# Altium schematic symbol library SDEC944-xC.SCHLIB: 133 symbols (part 2 of 2)
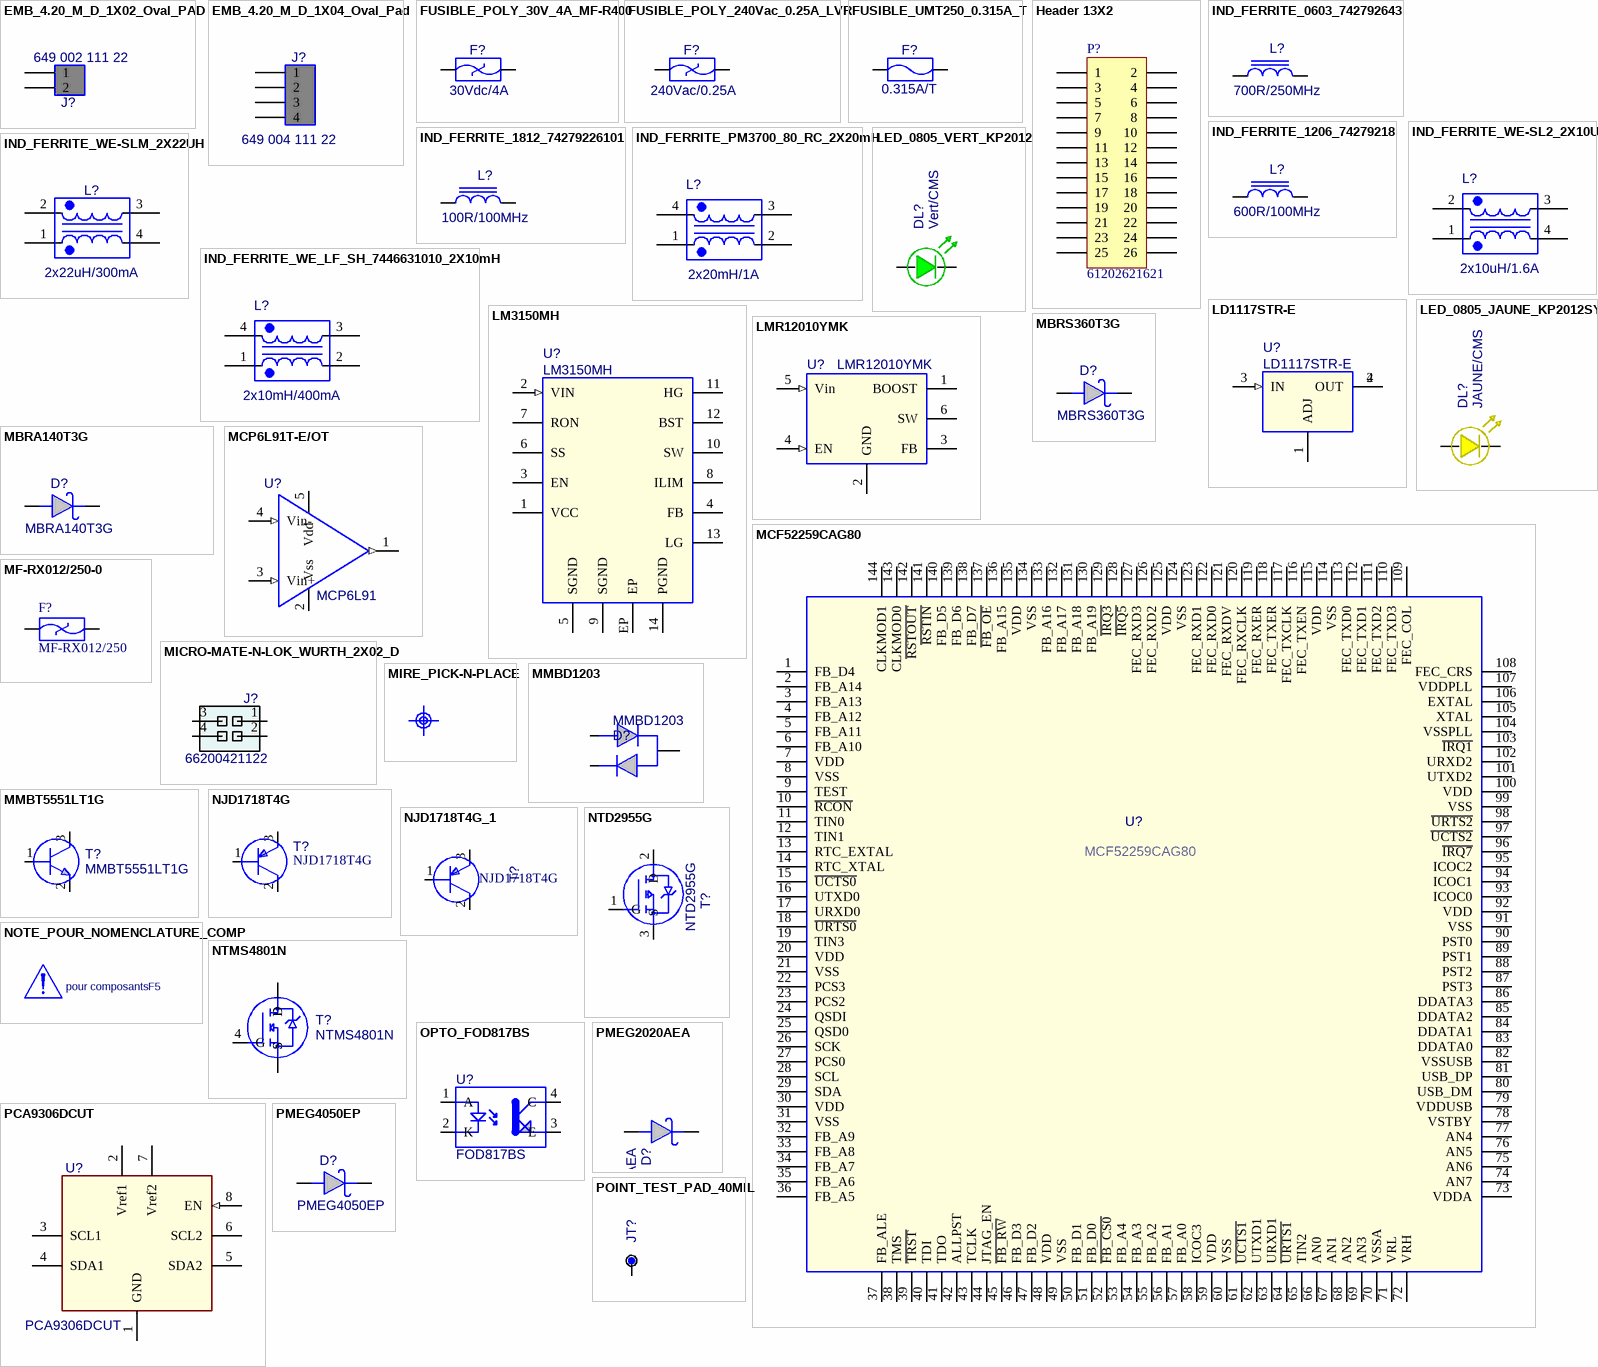
[diagram p4: symbols EMB_4.20_M_D_1X02_Oval_PAD to POINT_TEST_PAD_40MIL]

## OPTO_FOD817BS
designator U?  value FOD817BS  (hidden comment: OPTO_FOD817BS)
Optocouleur simple, IR GaAs, Viso=5kVrms, If=50mA, Vce=70V, Ic=50mA, CTR=130-260, CMS; Creation: FB (10/07/12); Boitier: MDIP4-SM; Remarque: {Remarque}; Coeff: 1; Fabricant: Fairchild; Verification: *; ComponentLink1URL: O:\_Documentation\Datasheets\Fairchild\FOD814A.pdf; ComponentLink2URL: o:\_Documentation\Datasheets\; Config: *; ComponentLink1Description: Datasheet; ComponentLink2Description: Datasheet Boitier; Ref Fab: FOD817BS; Supplier Part Number 1: 512-FOD817BS; Supplier 1: Mouser
footprint OPTO_FOD817BS_ReflowSoldering
pins: 1 A, 2 K, 3 E, 4 C

## PCA9306DCUT
designator U?
DUAL BIDIRECTIONAL I2C BUS AND SMBus  VOLTAGE-LEVEL TRANSLATOR ,1.2V à 5V, CMS; Creation: CHD (21/02/12); Reference: {Reference}; Boitier: VSSOP-8; Fabricant: Texas Instruments; Coeff: 1; Ref Fab: PCA9306DCUT; ComponentLink1URL: o:\_Documentation\Datasheets\Texas\PCA9306.pdf; ComponentLink2URL: o:\_Documentation\Datasheets\Texas\PCA9306.pdf; Config: *; ComponentLink1Description: Datasheet; ComponentLink2Description: Datasheet Boitier; Supplier 1: Farnell; Supplier Part Number 1: 2126364; Value: PCA9306DCUT; Supplier 2: Mouser; Supplier Part Number 2: 595-PCA9306DCUT
footprint VSSOP_008_E0,5_L3,1MM
pins: 1 GND (power), 2 Vref1 (power), 3 SCL1, 4 SDA1, 5 SDA2, 6 SCL2, 7 Vref2 (power), 8 EN (in)

## PMEG2020AEA
designator D?
Diode Schottky, Vrrm=20V, If=2A, Vf=0.45V, CMS; Creation: PDP (10/07/12); Boitier: SOD323; Remarque: {Remarque}; Coeff: 1; Fabricant: NXP; Verification: *; ComponentLink1URL: o:\_Documentation\Datasheets\NXP\PMEG2020AEA.PDF; ComponentLink2URL: o:\_Documentation\Datasheets\_BOITIERS\ACTIF_CMS\SOD\SOD_80_(MLL34)_(Schneider).PDF; Config: *; ComponentLink1Description: Datasheet; ComponentLink2Description: Datasheet Boitier; Ref Fab: PMEG2020AEA; Value: PMEG2020AEA
footprint SOD323_ReflowSoldering
footprint SOD323_WaveSoldering
pins: A, K

## PMEG4050EP
designator D?
Diode Schottky, Vrrm=30V, If=5A(aver), Vf=0.315V, CMS; Creation: PDP (25/09/12); Boitier: SOD128; Remarque: {Remarque}; Coeff: 1; Fabricant: NXP; Verification: *; ComponentLink1URL: o:\_Documentation\Datasheets\NXP\PMEG4050EP.pdf; ComponentLink2URL: o:\_Documentation\Datasheets\_BOITIERS\ACTIF_CMS\SOD\; Config: *; ComponentLink1Description: Datasheet; ComponentLink2Description: Datasheet Boitier; Ref Fab: PMEG4050EP; Value: PMEG4050EP; Supplier 1: Mouser; Supplier 2: Farnell; Supplier Part Number 1: 771-PMEG4050EP115; Supplier Part Number 2: 1829203RL
footprint SOD128_ReflowSoldering
pins: A, K

## POINT_TEST_PAD_40MIL
designator JT?  (value not drawn)  (no BOM)
Point de test sur CI, pad de diamètre 1.016mm (40mils); Creation: FB (04/10/12); Remarque: {Remarque}; Coeff: 1; Value: POINT_TEST; Config: *; ComponentLink1Description: Datasheet; ComponentLink2Description: Datasheet Boitier
footprint PAD_CMS_40X40_E
footprint PAD_CL5_E40X40Y17D
pins: 1

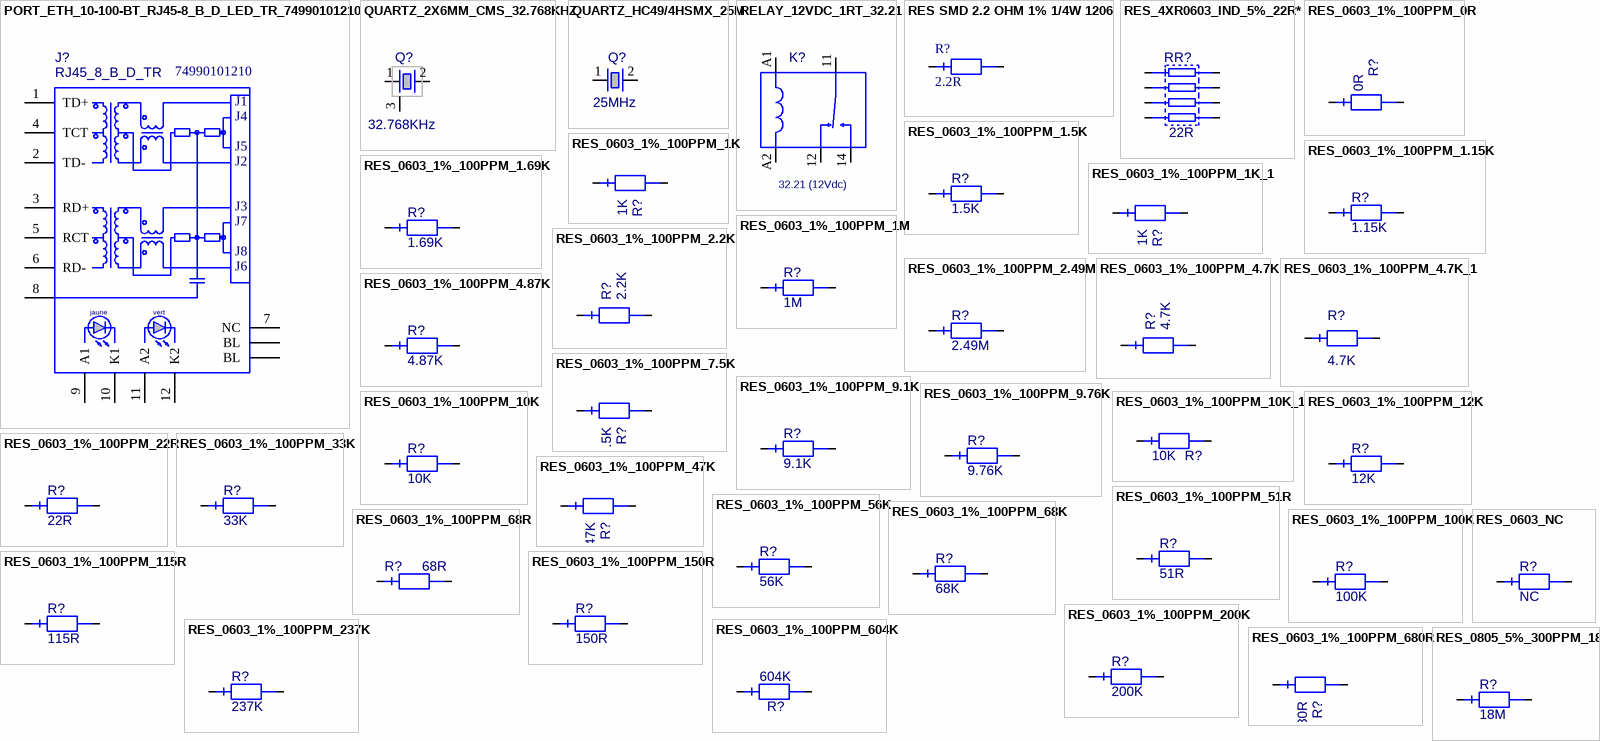
[diagram p2: symbols PORT_ETH_10-100-BT_RJ45-8_B_D_LED_TR_74990101210 to RES_0805_5%_300PPM_18M]

## PORT_ETH_10-100-BT_RJ45-8_B_D_LED_TR_74990101210
designator J?  value RJ45_8_B_D_TR  Ref Fab: 74990101210  (hidden comment: PORT_ETH_10-100-BT_RJ45-8_B_D_LED_TR_74990101210)
Embase RJ45 avec transformateur, 8/8 contacts + Led verte et jaune, blindée, droit, Viso 1.5kV; Creation: JPL (05/07/12); Coeff: 1; Fabricant: Wurth Electronik; Boitier: RJ45_8_B_D_TR; Config: *; ComponentLink1Description: Datasheet; ComponentLink2Description: Datasheet Boitier
footprint RJ45_8_B_D_TR_74990101210
pins: 1 TD+, 2 TD-, 3 RD+, 4 TCT, 5 RCT, 6 RD-, 7 NC, 8, 9 A1, 10 K1, 11 A2, 12 K2, FIX1 BL, FIX2 BL
text: J1; J4; J5; J2; J3; J7; J8; J6; jaune; vert

## QUARTZ_2X6MM_CMS_32.768KHZ
designator Q?  value 32.768KHz  (hidden comment: QUARTZ_2X6MM_CMS_32.768KHZ)
Quartz CMS type Montre (cylindrique 2x6mm), -40/+85°C, +/-20ppm, 7pF, 32.768KHz; Creation: LJ (17/02/11); Reference: 001582/00; Boitier: QuartzCyl_2x6mm_CMS; Fabricant: Citizen; Ref Fab: CMR200T32.768KDZY-UT; Coeff: 1; Verification: *; Remarque: *; ComponentLink1URL: o:\_Documentation\Datasheets\Citizen\Quartz_CMR200-32,768kHz_CMS.pdf; ComponentLink2URL: o:\_Documentation\Datasheets\_BOITIERS\; Config: *; ComponentLink1Description: Datasheet; ComponentLink2Description: Datasheet Boitier; Supplier 1: Farnell; Supplier 2: Mouser; Supplier Part Number 1: 1703589; Supplier Part Number 2: 695-CMR200T32.7KY-U
footprint QUARTZ_2X6MM_CYL_CMS
pins: 1, 2, 3
1 alternate drawing of the same symbol

## QUARTZ_HC49/4HSMX_25M
designator Q?  value 25MHz  (hidden comment: QUARTZ_HC49/4HSMX_25M)
Quartz CMS série HCM49 (équiv HC49/US), -10/+60°C, +/-30ppm, 18pF; Creation: LJ (11/03/09); Reference: 000495/00; Fabricant: Citizen; Ref Fab: HCM49 25.000MABJ-UT; Coeff: 1; Verification: *; Boitier: HC49/4HSMX; Remarque: *; ComponentLink1URL: O:\_Documentation\Datasheets\Citizen\Quartz_HC49-US_HCM49.pdf; ComponentLink2URL: o:\_Documentation\Datasheets\_BOITIERS\; Config: *; ComponentLink1Description: Datasheet; ComponentLink2Description: Datasheet Boitier; Supplier 1: Farnell; Supplier 2: Mouser; Supplier Part Number 1: 1457105; Supplier Part Number 2: 695-HCM49-25-U
footprint QUARTZ_HC49_11.5X5_CMS (HC49/4H SMX)
pins: 1, 2
1 alternate drawing of the same symbol

## RELAY_12VDC_1RT_32.21
designator K?  value 32.21 (12Vdc)  (hidden comment: RELAY_12VDC_1RT_32.21)
Relais 1RT, 12Vdc, série 32.21, Rc=720R, Sw:250Vac/6A, Ron=? (AgCdO); Creation: CHD (21/03/12); Boitier: 20x10x10.7mm; Remarque: {Remarque}; Fabricant: Finder; Ref Fab: 32.21.7.012.2000; Coeff: 1; ComponentLink1URL: O:\_Documentation\Datasheets\Finder\Relais_Serie_32.pdf; ComponentLink2URL: o:\_Documentation\Datasheets\Finder\; Config: *; ComponentLink1Description: Datasheet; ComponentLink2Description: Datasheet Boitier; Supplier 1: Farnell; Supplier Part Number 1: 1329652
footprint RELAY_FINDER_32.21
pins: 11 COM, 12 NC, 14 NO, A1, A2

## RES SMD 2.2 OHM 1% 1/4W 1206
designator R?  Resistance (Ohms): 2.2R  (hidden comment: RES SMD 2.2 OHM 1% 1/4W 1206)
Manufacturer: Yageo; Manufacturer Part Number: AC1206FR-072R2L; Power (Watts): 0.25W, 1/4W; Temperature Coefficient: ±200ppm/°C; Supplier 1: Digi-Key; RoHS: RoHS Compliant; Category: Resistors; Stock 1: 9515; Pricing 1: 1=0.1, 10=0.066, 25=0.048, 100=0.0269, 250=0.02048, 500=0.0164, 1000=0.01207, 2500=0.01048 (USD); Packaging: Cut Tape (CT); Part Status: Active; Tolerance: ±1%; Composition: Thick Film; Features: Automotive AEC-Q200, Moisture Resistant; Operating Temperature: -55°C ~ 155°C; Package / Case: 1206 (3016 Metric); Supplier Device Package: 1206; Size / Dimension: 0.122" L x 0.063" W (3.10mm x 1.60mm); Height: 0.026" (0.65mm); Number of Terminations: 2; Failure Rate: -; ComponentLink1URL: http://www.yageo.com/NewPortal/yageodocoutput?fileName=/pdf/R-Chip/PYu-AC_51_RoHS_L_5.pdf; ComponentLink1Description: http://www.yageo.com/NewPortal/yageodocoutput?fileName=/pdf/R-Chip/PYu-AC_51_RoHS_L_5.pdf; Supplier Part Number 1: YAG3859CT-ND
footprint 1206_ReflowSoldering_RES
pins: 1, 2

## RES_4XR0603_IND_5%_22R*
designator RR?  value 22R  (hidden comment: RES_4XR0603_IND_5%_22R*)
Réseau de 4 résistances 0603 individuels, 63mW, 5%, CONCAVE / CONVEXE, CMS 1206; Creation: CHD; Reference: 001805/00; Boitier: ARx241; Remarque: {Remarque}; Verification: LJ (07/02/12); Coeff: 1; Fabricant: Yageo; Ref Fab: YC164-JR-0722RL; ComponentLink1URL: o:\_Documentation\Datasheets\Phycomp\ARC-ARV241-242.PDF; ComponentLink2URL: o:\_Documentation\Datasheets\_BOITIERS\; Config: *; ComponentLink1Description: Datasheet; ComponentLink2Description: Datasheet Boitier; Supplier 1: Farnell; Supplier Part Number 1: 9234411
footprint ARV241
pins: 1, 2, 3, 4, 5, 6, 7, 8

## RES_0603_1%_100PPM_0R
designator R?  value 0R  (hidden comment: RES_0603_1%_100PPM_0R)
Résistance, 0.100W, 1%, 100ppm, 75V, 0R; Creation: FB (04/07/12); Boitier: 0603; Remarque: {Remarque}; Fabricant: Vishay; Ref Fab: CRCW06030000Z0EA; Coeff: 1; Verification: *; ComponentLink1URL: O:\_Documentation\Datasheets\Vishay\Resistances_D-CRCWe3.pdf; ComponentLink2URL: o:\_Documentation\Datasheets\_BOITIERS\PASSIF_CMS\; Config: *; ComponentLink1Description: Datasheet; ComponentLink2Description: Datasheet Boitier; Supplier 1: Farnell; Supplier Part Number 1: 1469739
footprint 0603_ReflowSoldering_RES
footprint 0603_WaveSoldering_RES
pins: 1, 2
1 alternate drawing of the same symbol

## RES_0603_1%_100PPM_1.5K
designator R?  value 1.5K  (hidden comment: RES_0603_1%_100PPM_1.5K)
Résistance, 0.100W, 1%, 100ppm, 75V, 1.5K; Creation: JPL (05/07/12); Boitier: 0603; Remarque: {Remarque}; Fabricant: Vishay; Ref Fab: CRCW06031K50FKEA; Coeff: 1; Verification: *; ComponentLink1URL: O:\_Documentation\Datasheets\Vishay\Resistances_D-CRCWe3.pdf; ComponentLink2URL: o:\_Documentation\Datasheets\_BOITIERS\PASSIF_CMS\; Config: *; ComponentLink1Description: Datasheet; ComponentLink2Description: Datasheet Boitier; Supplier 1: Farnell; Supplier 2: RadioSpares; Supplier Part Number 1: 1469743; Supplier Part Number 2: 6789908
footprint 0603_ReflowSoldering_RES
footprint 0603_WaveSoldering_RES
pins: 1, 2
1 alternate drawing of the same symbol

## RES_0603_1%_100PPM_1.15K
designator R?  value 1.15K  (hidden comment: RES_0603_1%_100PPM_1.15K)
Résistance, 0.100W, 1%, 100ppm, 75V, 1.15K; Creation: PDP (20/09/12); Boitier: 0603; Remarque: {Remarque}; Fabricant: Vishay; Ref Fab: CRCW06031K15FKEA; Coeff: 1; Verification: *; ComponentLink1URL: O:\_Documentation\Datasheets\Vishay\Resistances_D-CRCWe3.pdf; ComponentLink2URL: o:\_Documentation\Datasheets\_BOITIERS\PASSIF_CMS\; Config: *; ComponentLink1Description: Datasheet; ComponentLink2Description: Datasheet Boitier; Supplier 1: Mouser; Supplier Part Number 1: 71-CRCW0603-1.15K-E3; Supplier 2: Farnell; Supplier Part Number 2: 2138355
footprint 0603_ReflowSoldering_RES
footprint 0603_WaveSoldering_RES
pins: 1, 2
1 alternate drawing of the same symbol

## RES_0603_1%_100PPM_1.69K
designator R?  value 1.69K  (hidden comment: RES_0603_1%_100PPM_1.69K)
Résistance, 0.100W, 1%, 100ppm, 75V, 1.69K; Creation: PDP (03/10/12); Boitier: 0603; Remarque: {Remarque}; Fabricant: Vishay; Ref Fab: CRCW06031K69FKEA; Coeff: 1; Verification: *; ComponentLink1URL: O:\_Documentation\Datasheets\Vishay\Resistances_D-CRCWe3.pdf; ComponentLink2URL: o:\_Documentation\Datasheets\_BOITIERS\PASSIF_CMS\; Config: *; ComponentLink1Description: Datasheet; ComponentLink2Description: Datasheet Boitier; Supplier 1: Farnell; Supplier Part Number 1: 1692520; Supplier 2: Mouser; Supplier Part Number 2: 71-CRCW0603-1.69K-E3
footprint 0603_ReflowSoldering_RES
footprint 0603_WaveSoldering_RES
pins: 1, 2
1 alternate drawing of the same symbol

## RES_0603_1%_100PPM_1K
designator R?  value 1K  (hidden comment: RES_0603_1%_100PPM_1K)
Résistance, 0.100W, 1%, 100ppm, 75V, 1K; Creation: JPL (05/07/12); Boitier: 0603; Remarque: {Remarque}; Fabricant: Vishay; Ref Fab: CRCW06031K00FKEA; Coeff: 1; Verification: *; ComponentLink1URL: O:\_Documentation\Datasheets\Vishay\Resistances_D-CRCWe3.pdf; ComponentLink2URL: o:\_Documentation\Datasheets\_BOITIERS\PASSIF_CMS\; Config: *; ComponentLink1Description: Datasheet; ComponentLink2Description: Datasheet Boitier; Supplier 1: Farnell; Supplier 2: RadioSpares; Supplier Part Number 1: 1469740; Supplier Part Number 2: 6789875
footprint 0603_ReflowSoldering_RES
footprint 0603_WaveSoldering_RES
pins: 1, 2
1 alternate drawing of the same symbol

## RES_0603_1%_100PPM_1K_1
designator R?, comment value 1K  (hidden comment: RES_0603_1%_100PPM_1K)
Résistance, 0.100W, 1%, 100ppm, 75V, 1K; Creation: JPL (05/07/12); Boitier: 0603; Remarque: {Remarque}; Fabricant: Vishay; Ref Fab: CRCW06031K00FKEA; Coeff: 1; Verification: *; ComponentLink1URL: O:\_Documentation\Datasheets\Vishay\Resistances_D-CRCWe3.pdf; ComponentLink2URL: o:\_Documentation\Datasheets\_BOITIERS\PASSIF_CMS\; Config: *; ComponentLink1Description: Datasheet; ComponentLink2Description: Datasheet Boitier; Supplier 1: Farnell; Supplier 2: RadioSpares; Supplier Part Number 1: 1469740; Supplier Part Number 2: 6789875
footprint 0603_ReflowSoldering_RES
pins: 1, 2
1 alternate drawing of the same symbol

## RES_0603_1%_100PPM_1M
designator R?  value 1M  (hidden comment: RES_0603_1%_100PPM_1M)
Résistance, 0.100W, 1%, 100ppm, 75V, 1M; Creation: FB (04/07/12); Boitier: 0603; Remarque: {Remarque}; Fabricant: Vishay; Ref Fab: CRCW06031M00FKEA; Coeff: 1; Verification: *; ComponentLink1URL: O:\_Documentation\Datasheets\Vishay\Resistances_D-CRCWe3.pdf; ComponentLink2URL: o:\_Documentation\Datasheets\_BOITIERS\PASSIF_CMS\; Config: *; ComponentLink1Description: Datasheet; ComponentLink2Description: Datasheet Boitier; Supplier 1: Farnell; Supplier Part Number 1: 1469746
footprint 0603_ReflowSoldering_RES
footprint 0603_WaveSoldering_RES
pins: 1, 2
1 alternate drawing of the same symbol

## RES_0603_1%_100PPM_2.2K
designator R?  value 2.2K  (hidden comment: RES_0603_1%_100PPM_2.2K)
Résistance, 0.100W, 1%, 100ppm, 75V, 2.2K; Creation: JPL (05/07/12); Boitier: 0603; Remarque: {Remarque}; Fabricant: Vishay; Ref Fab: CRCW06032K20FKEA; Coeff: 1; Verification: *; ComponentLink1URL: O:\_Documentation\Datasheets\Vishay\Resistances_D-CRCWe3.pdf; ComponentLink2URL: o:\_Documentation\Datasheets\_BOITIERS\PASSIF_CMS\; Config: *; ComponentLink1Description: Datasheet; ComponentLink2Description: Datasheet Boitier; Supplier 1: Farnell; Supplier 2: RadioSpares; Supplier Part Number 1: 1469765; Supplier Part Number 2: 6790112
footprint 0603_ReflowSoldering_RES
footprint 0603_WaveSoldering_RES
pins: 1, 2
1 alternate drawing of the same symbol

## RES_0603_1%_100PPM_2.49M
designator R?  value 2.49M  (hidden comment: RES_0603_1%_100PPM_2.49M)
Résistance, 0.100W, 1%, 100ppm, 75V, 2.49M; Creation: PDP (20/09/12); Boitier: 0603; Remarque: {Remarque}; Fabricant: Vishay; Ref Fab: CRCW06032M49FKEA; Coeff: 1; Verification: *; ComponentLink1URL: O:\_Documentation\Datasheets\Vishay\Resistances_D-CRCWe3.pdf; ComponentLink2URL: o:\_Documentation\Datasheets\_BOITIERS\PASSIF_CMS\; Config: *; ComponentLink1Description: Datasheet; ComponentLink2Description: Datasheet Boitier; Supplier 1: Mouser; Supplier Part Number 1: 71-CRCW06032M49FKEA; Supplier 2: Farnell; Supplier Part Number 2: 1652870RL
footprint 0603_ReflowSoldering_RES
footprint 0603_WaveSoldering_RES
pins: 1, 2
1 alternate drawing of the same symbol

## RES_0603_1%_100PPM_4.7K
designator R?  value 4.7K  (hidden comment: RES_0603_1%_100PPM_4.7K)
Résistance, 0.100W, 1%, 100ppm, 75V, 4.7K; Creation: JPL (05/07/12); Boitier: 0603; Remarque: {Remarque}; Fabricant: Vishay; Ref Fab: CRCW06034K70FKEA; Coeff: 1; Verification: *; ComponentLink1URL: O:\_Documentation\Datasheets\Vishay\Resistances_D-CRCWe3.pdf; ComponentLink2URL: o:\_Documentation\Datasheets\_BOITIERS\PASSIF_CMS\; Config: *; ComponentLink1Description: Datasheet; ComponentLink2Description: Datasheet Boitier; Supplier 1: Farnell; Supplier 2: RadioSpares; Supplier Part Number 1: 1469807; Supplier Part Number 2: 6790484
footprint 0603_ReflowSoldering_RES
footprint 0603_WaveSoldering_RES
pins: 1, 2
1 alternate drawing of the same symbol

## RES_0603_1%_100PPM_4.7K_1
designator R?, comment value 4.7K  (hidden comment: RES_0603_1%_100PPM_4.7K)
Résistance, 0.100W, 1%, 100ppm, 75V, 4.7K; Creation: JPL (05/07/12); Boitier: 0603; Remarque: {Remarque}; Fabricant: Vishay; Ref Fab: CRCW06034K70FKEA; Coeff: 1; Verification: *; ComponentLink1URL: O:\_Documentation\Datasheets\Vishay\Resistances_D-CRCWe3.pdf; ComponentLink2URL: o:\_Documentation\Datasheets\_BOITIERS\PASSIF_CMS\; Config: *; ComponentLink1Description: Datasheet; ComponentLink2Description: Datasheet Boitier; Supplier 1: Farnell; Supplier 2: RadioSpares; Supplier Part Number 1: 1469807; Supplier Part Number 2: 6790484
footprint 0603_ReflowSoldering_RES
pins: 1, 2
1 alternate drawing of the same symbol

## RES_0603_1%_100PPM_4.87K
designator R?  value 4.87K  (hidden comment: RES_0603_1%_100PPM_4.87K)
Résistance, 0.100W, 1%, 100ppm, 75V, 4.87K; Creation: JPL (05/07/12); Boitier: 0603; Remarque: {Remarque}; Fabricant: Vishay; Ref Fab: CRCW06034K87FKEA; Coeff: 1; Verification: *; ComponentLink1URL: O:\_Documentation\Datasheets\Vishay\Resistances_D-CRCWe3.pdf; ComponentLink2URL: o:\_Documentation\Datasheets\_BOITIERS\PASSIF_CMS\; Config: *; ComponentLink1Description: Datasheet; ComponentLink2Description: Datasheet Boitier; Supplier 1: Farnell; Supplier 2: RadioSpares; Supplier Part Number 1: 1692529; Supplier Part Number 2: 6790481
footprint 0603_ReflowSoldering_RES
footprint 0603_WaveSoldering_RES
pins: 1, 2
1 alternate drawing of the same symbol

## RES_0603_1%_100PPM_7.5K
designator R?  value 7.5K  (hidden comment: RES_0603_1%_100PPM_7.5K)
Résistance, 0.100W, 1%, 100ppm, 75V, 7.5K; Creation: ZA (12/04/13); Boitier: 0603; Remarque: {Remarque}; Fabricant: Vishay; Ref Fab: CRCW06037K50FKEA; Coeff: 1; Verification: *; ComponentLink1URL: o:\_Documentation\Datasheets\Vishay\Resistances_D-CRCWe3.pdf; ComponentLink2URL: o:\_Documentation\Datasheets\_BOITIERS\PASSIF_CMS\; Config: *; ComponentLink1Description: Datasheet; ComponentLink2Description: Datasheet Boitier; Supplier 1: Farnell; Supplier 2: Mouser; Supplier Part Number 1: 1469835; Supplier Part Number 2: 71-CRCW0603-7.5K-E3
footprint 0603_ReflowSoldering_RES
footprint 0603_WaveSoldering_RES
pins: 1, 2
1 alternate drawing of the same symbol

## RES_0603_1%_100PPM_9.1K
designator R?  value 9.1K  (hidden comment: RES_0603_1%_100PPM_9.1K)
Résistance, 0.100W, 1%, 100ppm, 75V, 9.1K; Creation: PDP (03/09/12); Boitier: 0603; Remarque: {Remarque}; Fabricant: Vishay; Ref Fab: CRCW06039K10FKEA; Coeff: 1; ComponentLink1URL: O:\_Documentation\Datasheets\Vishay\Resistances_D-CRCWe3.pdf; ComponentLink2URL: o:\_Documentation\Datasheets\_BOITIERS\PASSIF_CMS\; Config: *; ComponentLink1Description: Datasheet; ComponentLink2Description: Datasheet Boitier; Supplier 1: Mouser; Supplier Part Number 1: 71-CRCW0603-9.1K-E3; Supplier 2: Farnell; Supplier Part Number 2: 1469842RL
footprint 0603_ReflowSoldering_RES
footprint 0603_WaveSoldering_RES
pins: 1, 2
1 alternate drawing of the same symbol

## RES_0603_1%_100PPM_9.76K
designator R?  value 9.76K  (hidden comment: RES_0603_1%_100PPM_9.76K)
Résistance, 0.100W, 1%, 100ppm, 75V, 9.76K; Creation: PDP (20/09/12); Boitier: 0603; Remarque: {Remarque}; Fabricant: Vishay; Ref Fab: CRCW06039K76FKEA; Coeff: 1; ComponentLink1URL: O:\_Documentation\Datasheets\Vishay\Resistances_D-CRCWe3.pdf; ComponentLink2URL: o:\_Documentation\Datasheets\_BOITIERS\PASSIF_CMS\; Config: *; ComponentLink1Description: Datasheet; ComponentLink2Description: Datasheet Boitier; Supplier 1: Farnell; Supplier Part Number 1: 1152160; Supplier 2: Mouser; Supplier Part Number 2: 71-CRCW0603-9.76K-E3
footprint 0603_ReflowSoldering_RES
footprint 0603_WaveSoldering_RES
pins: 1, 2
1 alternate drawing of the same symbol

## RES_0603_1%_100PPM_10K
designator R?  value 10K  (hidden comment: RES_0603_1%_100PPM_10K)
Résistance, 0.100W, 1%, 100ppm, 75V, 10K; Creation: JPL (05/07/12); Boitier: 0603; Remarque: {Remarque}; Coeff: 1; Fabricant: Vishay; Ref Fab: CRCW060310K0FKEA; Verification: *; ComponentLink1URL: O:\_Documentation\Datasheets\Vishay\Resistances_D-CRCWe3.pdf; ComponentLink2URL: o:\_Documentation\Datasheets\_BOITIERS\PASSIF_CMS\; Config: *; ComponentLink1Description: Datasheet; ComponentLink2Description: Datasheet Boitier; Supplier 1: Farnell; Supplier Part Number 1: 1469748; Supplier 2: RadioSpares; Supplier Part Number 2: 6789667
footprint 0603_ReflowSoldering_RES
footprint 0603_WaveSoldering_RES
pins: 1, 2
1 alternate drawing of the same symbol

## RES_0603_1%_100PPM_10K_1
designator R?, comment value 10K  (hidden comment: RES_0603_1%_100PPM_10K)
Résistance, 0.100W, 1%, 100ppm, 75V, 10K; Creation: JPL (05/07/12); Boitier: 0603; Remarque: {Remarque}; Fabricant: Vishay; Ref Fab: CRCW060310K0FKEA; Coeff: 1; Verification: *; ComponentLink1URL: O:\_Documentation\Datasheets\Vishay\Resistances_D-CRCWe3.pdf; ComponentLink2URL: o:\_Documentation\Datasheets\_BOITIERS\PASSIF_CMS\; Config: *; ComponentLink1Description: Datasheet; ComponentLink2Description: Datasheet Boitier; Supplier 1: Farnell; Supplier 2: RadioSpares; Supplier Part Number 1: 1469748; Supplier Part Number 2: 6789667
footprint 0603_ReflowSoldering_RES
pins: 1, 2
1 alternate drawing of the same symbol

## RES_0603_1%_100PPM_12K
designator R?  value 12K  (hidden comment: RES_0603_1%_100PPM_12K)
Résistance, 0.100W, 1%, 100ppm, 75V, 12K; Creation: PDP (19/09/12); Boitier: 0603; Remarque: {Remarque}; Fabricant: Vishay; Ref Fab: CRCW060312K0FKEA; Coeff: 1; ComponentLink1URL: O:\_Documentation\Datasheets\Vishay\Resistances_D-CRCWe3.pdf; ComponentLink2URL: o:\_Documentation\Datasheets\_BOITIERS\PASSIF_CMS\; Config: *; ComponentLink1Description: Datasheet; ComponentLink2Description: Datasheet Boitier; Supplier 1: Mouser; Supplier Part Number 1: 71-CRCW0603-12K-E3; Supplier 2: Farnell; Supplier Part Number 2: 1652834
footprint 0603_ReflowSoldering_RES
footprint 0603_WaveSoldering_RES
pins: 1, 2
1 alternate drawing of the same symbol

## RES_0603_1%_100PPM_22R
designator R?  value 22R  (hidden comment: RES_0603_1%_100PPM_22R)
Résistance, 0.100W, 1%, 100ppm, 75V, 22R; Creation: FB (05/07/12); Boitier: 0603; Remarque: {Remarque}; Fabricant: Vishay; Ref Fab: CRCW060322R0FKEA; Coeff: 1; Verification: *; ComponentLink1URL: O:\_Documentation\Datasheets\Vishay\Resistances_D-CRCWe3.pdf; ComponentLink2URL: o:\_Documentation\Datasheets\_BOITIERS\PASSIF_CMS\; Config: *; ComponentLink1Description: Datasheet; ComponentLink2Description: Datasheet Boitier; Supplier 1: Farnell; Supplier Part Number 1: 1469781
footprint 0603_ReflowSoldering_RES
footprint 0603_WaveSoldering_RES
pins: 1, 2
1 alternate drawing of the same symbol

## RES_0603_1%_100PPM_33K
designator R?  value 33K  (hidden comment: RES_0603_1%_100PPM_33K)
Résistance, 0.100W, 1%, 100ppm, 75V, 33K; Creation: JPL (05/07/12); Boitier: 0603; Remarque: {Remarque}; Coeff: 1; Fabricant: Vishay; Ref Fab: CRCW060333K0FKEA; Verification: *; ComponentLink1URL: O:\_Documentation\Datasheets\Vishay\Resistances_D-CRCWe3.pdf; ComponentLink2URL: o:\_Documentation\Datasheets\_BOITIERS\PASSIF_CMS\; Config: *; ComponentLink1Description: Datasheet; ComponentLink2Description: Datasheet Boitier; Supplier 1: Farnell; Supplier Part Number 1: 1469801; Supplier 2: RadioSpares; Supplier Part Number 2: 6790232
footprint 0603_ReflowSoldering_RES
footprint 0603_WaveSoldering_RES
pins: 1, 2
1 alternate drawing of the same symbol

## RES_0603_1%_100PPM_47K
designator R?  value 47K  (hidden comment: RES_0603_1%_100PPM_47K)
Résistance, 0.100W, 1%, 100ppm, 75V, 47K; Creation: JPL (05/07/12); Boitier: 0603; Remarque: {Remarque}; Fabricant: Vishay; Ref Fab: CRCW060347K0FKEA; Coeff: 1; Verification: *; ComponentLink1URL: O:\_Documentation\Datasheets\Vishay\Resistances_D-CRCWe3.pdf; ComponentLink2URL: o:\_Documentation\Datasheets\_BOITIERS\PASSIF_CMS\; Config: *; ComponentLink1Description: Datasheet; ComponentLink2Description: Datasheet Boitier; Supplier 1: Farnell; Supplier 2: RadioSpares; Supplier Part Number 1: 1469811; Supplier Part Number 2: 6790425
footprint 0603_ReflowSoldering_RES
footprint 0603_WaveSoldering_RES
pins: 1, 2
1 alternate drawing of the same symbol

## RES_0603_1%_100PPM_51R
designator R?  value 51R  (hidden comment: RES_0603_1%_100PPM_51R)
Résistance, 0.100W, 1%, 100ppm, 75V, 51R; Creation: JPL (05/07/12); Boitier: 0603; Remarque: {Remarque}; Fabricant: Vishay; Ref Fab: CRCW060351R0FKEA; Coeff: 1; Verification: *; ComponentLink1URL: O:\_Documentation\Datasheets\Vishay\Resistances_D-CRCWe3.pdf; ComponentLink2URL: o:\_Documentation\Datasheets\_BOITIERS\PASSIF_CMS\; Config: *; ComponentLink1Description: Datasheet; ComponentLink2Description: Datasheet Boitier; Supplier 1: Farnell; Supplier 2: Mouser; Supplier Part Number 1: 1652889; Supplier Part Number 2: 71-CRCW0603-51-E3
footprint 0603_ReflowSoldering_RES
footprint 0603_WaveSoldering_RES
pins: 1, 2
1 alternate drawing of the same symbol

## RES_0603_1%_100PPM_56K
designator R?  value 56K  (hidden comment: RES_0603_1%_100PPM_56K)
Résistance, 0.100W, 1%, 100ppm, 75V, 56K; Creation: PDP 19/09/2012; Boitier: 0603; Remarque: {Remarque}; Fabricant: Vishay; Ref Fab: CRCW060356K0FKEA; Coeff: 1; ComponentLink1URL: O:\_Documentation\Datasheets\Vishay\Resistances_D-CRCWe3.pdf; ComponentLink2URL: o:\_Documentation\Datasheets\_BOITIERS\PASSIF_CMS\; Config: *; ComponentLink1Description: Datasheet; ComponentLink2Description: Datasheet Boitier; Supplier 1: Farnell; Supplier Part Number 1: 1613127; Supplier 2: Mouser; Supplier Part Number 2: 71-CRCW0603-56K-E3
footprint 0603_ReflowSoldering_RES
footprint 0603_WaveSoldering_RES
pins: 1, 2
1 alternate drawing of the same symbol

## RES_0603_1%_100PPM_68K
designator R?  value 68K  (hidden comment: RES_0603_1%_100PPM_68K)
Résistance, 0.100W, 1%, 100ppm, 75V, 68K; Creation: PDP (19/09/12); Boitier: 0603; Remarque: {Remarque}; Fabricant: Vishay; Ref Fab: CRCW060368K0FKEA; Coeff: 1; Verification: *; ComponentLink1URL: O:\_Documentation\Datasheets\Vishay\Resistances_D-CRCWe3.pdf; ComponentLink2URL: o:\_Documentation\Datasheets\_BOITIERS\PASSIF_CMS\; Config: *; ComponentLink1Description: Datasheet; ComponentLink2Description: Datasheet Boitier; Supplier 1: Mouser; Supplier Part Number 1: 71-CRCW0603-68K-E3; Supplier 2: Farnell; Supplier Part Number 2: 1469832RL
footprint 0603_ReflowSoldering_RES
footprint 0603_WaveSoldering_RES
pins: 1, 2
1 alternate drawing of the same symbol

## RES_0603_1%_100PPM_68R
designator R?  value 68R  (hidden comment: RES_0603_1%_100PPM_68R)
Résistance, 0.100W, 1%, 100ppm, 75V, 68R; Creation: FB (01/03/12); Boitier: 0603; Remarque: {Remarque}; Fabricant: Vishay; Ref Fab: CRCW060368R0FKEA; Coeff: 1; Verification: *; ComponentLink1URL: O:\_Documentation\Datasheets\Vishay\Resistances_D-CRCWe3.pdf; ComponentLink2URL: o:\_Documentation\Datasheets\_BOITIERS\PASSIF_CMS\; Config: *; ComponentLink1Description: Datasheet; ComponentLink2Description: Datasheet Boitier; Supplier 1: Farnell; Supplier 2: RadioSpares; Supplier Part Number 1: 1469833; Supplier Part Number 2: 6790645
footprint 0603_ReflowSoldering_RES
footprint 0603_WaveSoldering_RES
pins: 1, 2
1 alternate drawing of the same symbol

## RES_0603_1%_100PPM_100K
designator R?  value 100K  (hidden comment: RES_0603_1%_100PPM_100K)
Résistance, 0.100W, 1%, 100ppm, 75V, 100K; Creation: FB (02/10/12); Boitier: 0603; Remarque: {Remarque}; Fabricant: Vishay; Ref Fab: CRCW0603100KFKEA; Coeff: 1; Verification: *; ComponentLink1URL: O:\_Documentation\Datasheets\Vishay\Resistances_D-CRCWe3.pdf; ComponentLink2URL: o:\_Documentation\Datasheets\_BOITIERS\PASSIF_CMS\; Config: *; ComponentLink1Description: Datasheet; ComponentLink2Description: Datasheet Boitier; Supplier 1: Farnell; Supplier Part Number 1: 1469649; Supplier 2: Mouser; Supplier Part Number 2: 71-CRCW0603-100K-E3
footprint 0603_ReflowSoldering_RES
footprint 0603_WaveSoldering_RES
pins: 1, 2
1 alternate drawing of the same symbol

## RES_0603_1%_100PPM_115R
designator R?  value 115R  (hidden comment: RES_0603_1%_100PPM_115R)
Résistance, 0.100W, 1%, 100ppm, 75V, 115R; Creation: PDP (03/10/12); Boitier: 0603; Remarque: {Remarque}; Fabricant: Vishay; Ref Fab: CRCW0603115RFKEA; Coeff: 1; Verification: *; ComponentLink1URL: O:\_Documentation\Datasheets\Vishay\Resistances_D-CRCWe3.pdf; ComponentLink2URL: o:\_Documentation\Datasheets\_BOITIERS\PASSIF_CMS\; Config: *; ComponentLink1Description: Datasheet; ComponentLink2Description: Datasheet Boitier; Supplier 1: Mouser; Supplier Part Number 1: 71-CRCW0603-115-E3; Supplier 2: Farnell; Supplier Part Number 2: 2141284
footprint 0603_ReflowSoldering_RES
footprint 0603_WaveSoldering_RES
pins: 1, 2
1 alternate drawing of the same symbol

## RES_0603_1%_100PPM_150R
designator R?  value 150R  (hidden comment: RES_0603_1%_100PPM_150R)
Résistance, 0.100W, 1%, 100ppm, 75V, 150R; Creation: FB (17/07/12); Boitier: 0603; Remarque: {Remarque}; Fabricant: Vishay; Ref Fab: CRCW0603150RFKEA; Coeff: 1; Verification: *; ComponentLink1URL: O:\_Documentation\Datasheets\Vishay\Resistances_D-CRCWe3.pdf; ComponentLink2URL: o:\_Documentation\Datasheets\_BOITIERS\PASSIF_CMS\; Config: *; ComponentLink1Description: Datasheet; ComponentLink2Description: Datasheet Boitier; Supplier 1: Farnell; Supplier 2: Mouser; Supplier Part Number 1: 1469760; Supplier Part Number 2: 71-CRCW0603-150-E3
footprint 0603_ReflowSoldering_RES
footprint 0603_WaveSoldering_RES
pins: 1, 2
1 alternate drawing of the same symbol

## RES_0603_1%_100PPM_200K
designator R?  value 200K  (hidden comment: RES_0603_1%_100PPM_200K)
Résistance, 0.100W, 1%, 100ppm, 75V, 200K; Creation: JPL (05/07/12); Boitier: 0603; Remarque: {Remarque}; Fabricant: Vishay; Ref Fab: CRCW0603200KFKEA; Coeff: 1; Verification: *; ComponentLink1URL: O:\_Documentation\Datasheets\Vishay\Resistances_D-CRCWe3.pdf; ComponentLink2URL: o:\_Documentation\Datasheets\_BOITIERS\PASSIF_CMS\; Config: *; ComponentLink1Description: Datasheet; ComponentLink2Description: Datasheet Boitier; Supplier 1: Farnell; Supplier 2: RadioSpares; Supplier Part Number 1: 1469776; Supplier Part Number 2: 6789967
footprint 0603_ReflowSoldering_RES
footprint 0603_WaveSoldering_RES
pins: 1, 2
1 alternate drawing of the same symbol

## RES_0603_1%_100PPM_237K
designator R?  value 237K  (hidden comment: RES_0603_1%_100PPM_237K)
Résistance, 0.100W, 1%, 100ppm, 75V, 237K; Creation: PDP (20/09/12); Boitier: 0603; Remarque: {Remarque}; Fabricant: Vishay; Ref Fab: CRCW0603237KFKEA; Coeff: 1; Verification: *; ComponentLink1URL: O:\_Documentation\Datasheets\Vishay\Resistances_D-CRCWe3.pdf; ComponentLink2URL: o:\_Documentation\Datasheets\_BOITIERS\PASSIF_CMS\; Config: *; ComponentLink1Description: Datasheet; ComponentLink2Description: Datasheet Boitier; Supplier 1: Mouser; Supplier Part Number 1: 71-CRCW0603-237K-E3; Supplier 2: Farnell; Supplier Part Number 2: 2138533
footprint 0603_ReflowSoldering_RES
footprint 0603_WaveSoldering_RES
pins: 1, 2
1 alternate drawing of the same symbol

## RES_0603_1%_100PPM_604K
designator R?  value 604K  (hidden comment: RES_0603_1%_100PPM_604K)
Résistance, 0.100W, 1%, 100ppm, 75V, 604K; Creation: PDP (20/09/12); Boitier: 0603; Remarque: {Remarque}; Fabricant: Vishay; Ref Fab: CRCW0603604KFKEA; Coeff: 1; Verification: *; ComponentLink1URL: O:\_Documentation\Datasheets\Vishay\Resistances_D-CRCWe3.pdf; ComponentLink2URL: o:\_Documentation\Datasheets\_BOITIERS\PASSIF_CMS\; Config: *; ComponentLink1Description: Datasheet; ComponentLink2Description: Datasheet Boitier; Supplier 1: Mouser; Supplier Part Number 1: 71-CRCW0603-604K-E3; Supplier 2: Farnell; Supplier Part Number 2: 1152086
footprint 0603_ReflowSoldering_RES
footprint 0603_WaveSoldering_RES
pins: 1, 2
1 alternate drawing of the same symbol

## RES_0603_1%_100PPM_680R
designator R?  value 680R  (hidden comment: RES_0603_1%_100PPM_680R)
Résistance, 0.100W, 1%, 100ppm, 75V, 680R; Creation: FB (02/08/12); Boitier: 0603; Remarque: {Remarque}; Fabricant: Vishay; Ref Fab: CRCW0603680RFKEA; Coeff: 1; Verification: *; ComponentLink1URL: O:\_Documentation\Datasheets\Vishay\Resistances_D-CRCWe3.pdf; ComponentLink2URL: o:\_Documentation\Datasheets\_BOITIERS\PASSIF_CMS\; Config: *; ComponentLink1Description: Datasheet; ComponentLink2Description: Datasheet Boitier; Supplier 1: Farnell; Supplier Part Number 1: 1469834; Supplier 2: Mouser; Supplier Part Number 2: 71-CRCW0603-680-E3
footprint 0603_ReflowSoldering_RES
footprint 0603_WaveSoldering_RES
pins: 1, 2
1 alternate drawing of the same symbol

## RES_0603_NC
designator R?  value NC  (hidden comment: RES_0603_NC)
Résistance, 0.100W, NC; Creation: PDP (30/08/12); Boitier: 0603; Remarque: {Remarque}; Coeff: 1; ComponentLink2URL: o:\_Documentation\Datasheets\_BOITIERS\PASSIF_CMS\; Config: *; ComponentLink2Description: Datasheet Boitier
footprint 0603_ReflowSoldering_RES
footprint 0603_WaveSoldering_RES
pins: 1, 2
1 alternate drawing of the same symbol

## RES_0805_5%_300PPM_18M
designator R?  value 18M  (hidden comment: RES_0805_5%_300PPM_18M)
Résistance, 0.125W, 5%, 300ppm, 150V, 18M; Creation: FB (03/07/12); Boitier: 0805; Remarque: {Remarque}; Coeff: 1; Fabricant: Yageo; Ref Fab: RC0805JR-0718ML; Verification: *; ComponentLink2URL: o:\_Documentation\Datasheets\_BOITIERS\PASSIF_CMS\RC_0805_(2x1,25)_(Schneider).PDF; Config: *; ComponentLink1Description: Datasheet; ComponentLink2Description: Datasheet Boitier; Supplier Part Number 1: 9236422; Supplier 1: Farnell
footprint 0805_ReflowSoldering_RES
footprint 0805_ReflowSoldering_RES_ATEX
footprint 0805_WaveSoldering_RES
pins: 1, 2
1 alternate drawing of the same symbol

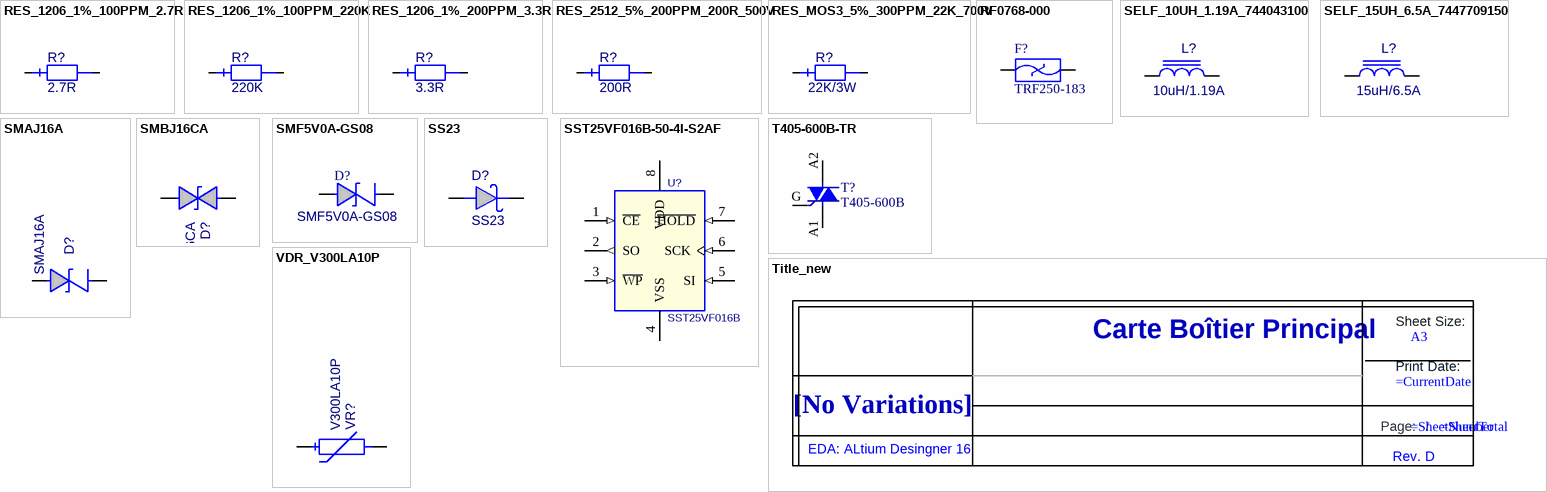
[diagram p3: symbols RES_1206_1%_100PPM_2.7R to VDR_V300LA10P]

## RES_1206_1%_100PPM_2.7R
designator R?  value 2.7R  (hidden comment: RES_1206_1%_100PPM_2.7R)
Résistance, 0.25W, 1%, 100ppm, 200V, 2.7R; Creation: FB (02/10/12); Boitier: 1206; Remarque: {Remarque}; Fabricant: Vishay; Ref Fab: CRCW12062R70FKEA; Coeff: 1; Verification: *; ComponentLink1URL: O:\_Documentation\Datasheets\Vishay\Resistances_D-CRCWe3.pdf; ComponentLink2URL: o:\_Documentation\Datasheets\_BOITIERS\PASSIF_CMS\; Config: *; ComponentLink1Description: Datasheet; ComponentLink2Description: Datasheet Boitier
footprint 1206_WaveSoldering_REs
footprint 1206_ReflowSoldering_RES
pins: 1, 2
1 alternate drawing of the same symbol

## RES_1206_1%_100PPM_220K
designator R?  value 220K  (hidden comment: RES_1206_1%_100PPM_220K)
Résistance, 0.25W, 1%, 100ppm, 200V, 220K; Creation: PDP (29/09/12); Boitier: 1206; Remarque: {Remarque}; Fabricant: Vishay; Ref Fab: CRCW1206220KFKEA; Coeff: 1; Verification: *; ComponentLink1URL: O:\_Documentation\Datasheets\Vishay\Resistances_D-CRCWe3.pdf; ComponentLink2URL: o:\_Documentation\Datasheets\_BOITIERS\PASSIF_CMS\; Config: *; ComponentLink1Description: Datasheet; ComponentLink2Description: Datasheet Boitier; Supplier 1: Mouser; Supplier Part Number 1: 71-CRCW1206-220K-E3; Supplier 2: Farnell; Supplier Part Number 2: 1152834
footprint 1206_WaveSoldering_REs
footprint 1206_ReflowSoldering_RES
pins: 1, 2
1 alternate drawing of the same symbol

## RES_1206_1%_200PPM_3.3R
designator R?  value 3.3R  (hidden comment: RES_1206_1%_200PPM_3.3R)
Résistance, 0.25W, 1%, 200ppm, 200V, 3.3R; Creation: LJ (14/01/14); Boitier: 1206; Remarque: {Remarque}; Fabricant: Yageo; Ref Fab: RC1206FR-073R3L; Coeff: 1; Verification: *; ComponentLink1URL: O:\_Documentation\Datasheets\Yageo\resistances_RC1206.pdf; ComponentLink2URL: o:\_Documentation\Datasheets\_BOITIERS\PASSIF_CMS\; Config: *; ComponentLink1Description: Datasheet; ComponentLink2Description: Datasheet Boitier; Supplier 1: Farnell; Supplier 2: Mouser; Supplier Part Number 1: 9236589; Supplier Part Number 2: 603-RC1206FR-073R3L
footprint 1206_WaveSoldering_REs
footprint 1206_ReflowSoldering_RES
pins: 1, 2
1 alternate drawing of the same symbol

## RES_2512_5%_200PPM_200R_500V
designator R?  value 200R  (hidden comment: RES_2512_5%_200PPM_200R_500V)
Résistance, 1W, 5%, 200ppm, 500V, 200R; Creation: FB (31/08/12); Boitier: 2512; Remarque: {Remarque}; Coeff: 1; Fabricant: Vishay; Ref Fab: CRCW2512200RJNEG; ComponentLink1URL: O:\_Documentation\Datasheets\Vishay\dcrcw.pdf; ComponentLink2URL: o:\_Documentation\Datasheets\_BOITIERS\PASSIF_CMS\R_2512_(6,4x3,2)_(Schneider).PDF; Config: *; ComponentLink1Description: Datasheet; ComponentLink2Description: Datasheet Boitier
footprint 2512_ReflowSoldering_RES
footprint 2512_WaveSoldering_RES
pins: 1, 2
1 alternate drawing of the same symbol

## RES_MOS3_5%_300PPM_22K_700V
designator R?  value 22K/3W  (hidden comment: RES_MOS3_5%_300PPM_22K_700V)
Résistance Metal Oxide MOS3, 3W, 5%, 300ppm, 700V, 22K; Creation: PDP; Coeff: 1; Fabricant: KOA Speer; Ref Fab: MOS3CT631R223J; Boitier: MOS3; ComponentLink1URL: o:\_Documentation\Datasheets\KOA\MOS.pdf; ComponentLink2URL: o:\_Documentation\Datasheets\KOA\MOS.pdf; Config: *; ComponentLink1Description: Datasheet; ComponentLink2Description: Datasheet Boitier; Supplier 1: Mouser; Supplier Part Number 1: 660-MOS3CT631R223J
footprint RES_MOS3
pins: 1, 2
1 alternate drawing of the same symbol

## RF0768-000
designator F?, comment TRF250-183
POLYSWITCH PTC RESET .183A; Manufacturer: Littelfuse Inc.; Manufacturer Part Number: RF0768-000; Voltage - Max: 100V; Current - Max: 10A; Current - Hold (Ih) (Max): 183mA; Current - Trip (It): 685mA; R Min/Max: 0.800 ~ 2.000 Ohm; Time to Trip: 1.8s; Supplier 1: Digi-Key; RoHS: RoHS Compliant; Category: Circuit Protection; Stock 1: 11510; Pricing 1: 1=0.71, 10=0.671, 25=0.6176, 50=0.5644, 100=0.4686, 250=0.426, 500=0.3621, 1000=0.3195, 2500=0.2982 (USD); Packaging: Bulk; Part Status: Active; Mounting Type: Through Hole; Package / Case: Radial, Disc; Size / Dimension: 0.295" Dia x 0.161" W (7.50mm x 4.10mm); Height - Seated (Max): 0.413" (10.50mm); Thickness (Max): -; Lead Spacing: 0.197" (5.00mm); ComponentLink1URL: http://media.digikey.com/pdf/Data%20Sheets/Tyco%20Electronics%20Raychem%20PDFs/TRF250-183.pdf; ComponentLink1Description: http://media.digikey.com/pdf/Data%20Sheets/Tyco%20Electronics%20Raychem%20PDFs/TRF250-183.pdf; Supplier Part Number 1: TRF250-183-ND
footprint TRF250-183
pins: 1, 2

## SELF_10UH_1.19A_744043100
designator L?  value 10uH/1.19A  (hidden comment: SELF_10UH_1.19A_744043100)
Inductance bobinée CMS, 10uH +/- 10%, I=1.19A, Rdc=0.095R, SRF=40MHz, -40/+85°C; Creation: LJ (02/08/12); Boitier: 4.8x4.8_h2.8mm; Coeff: 1; Fabricant: Wurth Elektronik; Verification: *; ComponentLink1URL: O:\_Documentation\Datasheets\Wurth_Elektronik\744043100.pdf; ComponentLink2URL: O:\_Documentation\Datasheets\Wurth_Elektronik\744043100.pdf; Remarque: *; Config: *; ComponentLink1Description: Datasheet; ComponentLink2Description: Datasheet Boitier; Ref Fab: 744043100
footprint SELF_WE-TPC_4.8x4.78_(type4828)
pins: 1, 2, 3 hidden, 4 hidden, 5 hidden, 6 hidden

## SELF_15UH_6.5A_7447709150
designator L?  value 15uH/6.5A  (hidden comment: SELF_15UH_6.5A_7447709150)
Inductance bobinée CMS, 15uH +/- 20%, I=6.5A, Rdc=0.026R, SRF=17MHz, -40/+85°C; Creation: PDP (20/09/12); Boitier: WE-PD_12x12_h10mm_typeXXL; Coeff: 1; Fabricant: Wurth Elektronik; Verification: *; ComponentLink1URL: O:\_Documentation\Datasheets\Wurth_Elektronik\7447709150.pdf; ComponentLink2URL: O:\_Documentation\Datasheets\Wurth_Elektronik\7447709150.pdf; Remarque: *; Config: *; ComponentLink1Description: Datasheet; ComponentLink2Description: Datasheet Boitier; Ref Fab: 7447709150; Supplier 1: Mouser; Supplier Part Number 1: 710-7447709150; Supplier 2: Farnell; Supplier Part Number 2: 1635944
footprint SELF_WEPD_12X12_h10_XXL
pins: 1, 2, 3 hidden, 4 hidden, 5 hidden, 6 hidden

## SMAJ16A
designator D?
Diode Transil/TVS unidirectionnelle (A), Transzorb, 400W, 16V, CMS; Creation: ZA (29/07/13); Boitier: DO214AC/SMA; Remarque: {Remarque}; Coeff: 1; Fabricant: Bourns; ComponentLink1URL: o:\_Documentation\Datasheets\Bourns\SMAJ-74970.pdf; ComponentLink2URL: o:\_Documentation\Datasheets\_BOITIERS\ACTIF_CMS\SMx\SMB_(Schneider).lnk; Config: *; ComponentLink1Description: Datasheet; ComponentLink2Description: Datasheet Boitier; Ref Fab: SMAJ16A; Supplier 1: Farnell; Supplier Part Number 1: 1843352; Supplier 2: Mouser; Supplier Part Number 2: 652-SMAJ16A; Value: SMAJ16A
footprint DO214AC-SMA-P_ReflowSoldering
footprint DO214AC-SMA-P_WaveSoldering
pins: A, K

## SMBJ16CA
designator D?
Diode Transil/TVS bidirectionnelle (CA), 600W, 16V, CMS, serie SMBJ; Creation: FB (30/07/13); Boitier: DO214AA/SMB; Remarque: {Remarque}; Coeff: 1; Fabricant: Bourns; ComponentLink1URL: O:\_Documentation\Datasheets\Bourns\SMBJ_diodes_TVS_600W.pdf; ComponentLink2URL: o:\_Documentation\Datasheets\_BOITIERS\ACTIF_CMS\SMx\SMB_(Schneider).lnk; Config: *; ComponentLink1Description: Datasheet; ComponentLink2Description: Datasheet Boitier; Ref Fab: SMBJ16CA; Supplier Part Number 1: 652-SMBJ16CA; Supplier 1: Mouser; Value: SMBJ16CA
footprint DO214AA-SMB-NP_ReflowSoldering
pins: 1, 2
1 alternate drawing of the same symbol

## SMF5V0A-GS08
designator D?
Diode Transil/TVS unidirectionnelle (A), 200W, 5V, CMS; Creation: LJ; Boitier: DO219AB/SMF; Remarque: {Remarque}; Fabricant: Vishay; Coeff: 1; Verification: *; Ref Fab: SMF5V0A-GS08; ComponentLink1URL: o:\_Documentation\Datasheets\Vishay\SMF5V0A~51A.pdf; ComponentLink2URL: o:\_Documentation\Datasheets\_BOITIERS\; Config: *; ComponentLink1Description: Datasheet; ComponentLink2Description: Datasheet Boitier; Value: SMF5V0A-GS08; Supplier 1: Farnell; Supplier 2: Mouser; Supplier Part Number 1: 1617696; Supplier Part Number 2: 78-SMF5V0A
footprint DO219AB-SMF-P_ReflowSoldering
pins: A, K
1 alternate drawing of the same symbol

## SS23
designator D?
Diode Schottky, Vrrm=30V, If=2A, Vf=0.5V, -65 à +125°C, CMS; Creation: ZA (16/04/13); Boitier: DO214AA/SMB; Fabricant: Fairchild; Coeff: 1; Verification: *; Ref Fab: SS23; ComponentLink1URL: o:\_Documentation\Datasheets\Fairchild\SS22-S210.pdf; ComponentLink2URL: o:\_Documentation\Datasheets\Fairchild\SS22-S210.pdf; Config: *; ComponentLink1Description: Datasheet; ComponentLink2Description: Datasheet Boitier; Supplier 1: Farnell; Supplier Part Number 1: 9843795; Supplier 2: Mouser; Supplier Part Number 2: 512-SS23; Value: SS23
footprint DO214AA-SMB-P_ReflowSoldering
footprint DO214AA-SMB-P_WaveSoldering
pins: A, K

## SST25VF016B-50-4I-S2AF
designator U?  value SST25VF016B  (hidden comment: SST25VF016B-50-4I-S2AF)
Mémoire Flash SPI, 2MBit, 50MHz, Vs=2.7~3.6V, -40/+85°C, CMS; Creation: PDP (23/04/13); Boitier: SO8_L200; Coeff: 1; Fabricant: Microchip; Verification: *; ComponentLink1URL: O:\_Documentation\Datasheets\MicroChip\SST25VF016B.pdf; ComponentLink2URL: O:\_Documentation\Datasheets\MicroChip\SST25VF016B.pdf; ComponentLink1Description: Datasheet; ComponentLink2Description: Datasheet Boitier; Ref Fab: SST25VF016B-50-4I-S2AF; Supplier 1: Farnell; Supplier Part Number 1: 1368695; Supplier 2: Mouser; Supplier Part Number 2: 579-25VF016B5IS2AF
footprint SOIC_08_E1.27_L200_REFLOWSOLDERING (SOIC, 8-Leads, Body 5.28x5.28mm, Pitch 1.27mm, IPC Medium Density)
pins: 1 ~{CE} (in), 2 SO (out), 3 ~{WP} (in), 4 VSS (power), 5 SI (in), 6 SCK (in), 7 ~{HOLD} (in), 8 VDD (power)

## T405-600B-TR
designator T?, comment T405-600B
TRIAC SENS GATE 600V 4A DPAK; Manufacturer: STMicroelectronics; Manufacturer Part Number: T405-600B-TR; Triac Type: Logic - Sensitive Gate; Voltage - Gate Trigger (Vgt) (Max): 1.3V; Current - Non Rep. Surge 50, 60Hz (Itsm): 30A, 31A; Current - Gate Trigger (Igt) (Max): 5mA; Current - Hold (Ih) (Max): 10mA; Configuration: Single; Supplier 1: Digi-Key; RoHS: RoHS Compliant; Category: Discrete Semiconductor Products; Stock 1: 12315; Pricing 1: 1=0.97, 10=0.866, 100=0.6755, 500=0.5586, 1000=0.44175 (USD); Packaging: Cut Tape (CT); Part Status: Active; Voltage - Off State: 600V; Current - On State (It (RMS)) (Max): 4A; Operating Temperature: -40°C ~ 150°C (TJ); Mounting Type: Surface Mount; Package / Case: TO-252-3, DPak (2 Leads + Tab), SC-63; Supplier Device Package: D-Pak; ComponentLink1URL: http://www.st.com/content/ccc/resource/technical/document/datasheet/cf/95/c3/9d/a2/b7/47/43/CD00002383.pdf/files/CD00002383.pdf/_jcr_content/translations/en.CD00002383.pdf; ComponentLink1Description: http://www.st.com/content/ccc/resource/technical/document/datasheet/cf/95/c3/9d/a2/b7/47/43/CD00002383.pdf/files/CD00002383.pdf/_jcr_content/translations/en.CD00002383.pdf; Supplier Part Number 1: 497-2505-1-ND
footprint D-PAK (Footprint not found)
pins: A1, A2, G

## Title_new
designator Title_new?, comment DNI  (value not drawn)  (graphical)
text: Sheet Size:; Carte Boîtier Principal; A3; Print Date:; [No Variations]; Page:; /; EDA: ALtium Desingner 16; Rev. D

## VDR_V300LA10P
designator VR?  value V300LA10P  (hidden comment: VDR_V300LA10P)
Varistance disque 300Vac, 46J, Vbreak=420V@1mA, Vclamp=775V@50A, Ipeak=4500A; Creation: ZA (24/04/13); Boitier: d10_h16_e7.5mm; Remarque: {Remarque}; Coeff: 1; Fabricant: Littelfuse; ComponentLink1URL: o:\_Documentation\Datasheets\Littelfuse\Varistances_LA.pdf; ComponentLink2URL: o:\_Documentation\Datasheets\Littelfuse\Varistances_LA.pdf; Config: *; ComponentLink1Description: Datasheet; ComponentLink2Description: Datasheet Boitier; Ref Fab: V300LA10P; Supplier 1: Farnell; Supplier Part Number 1: 1816960; Supplier 2: Mouser; Supplier Part Number 2: 576-V300LA10
footprint VDR_Serie_LA_d10_h16_e7.5mm
pins: 1, 2